# EAGLE library part 1X9_LONG (library pins_1.27mm_pitch)
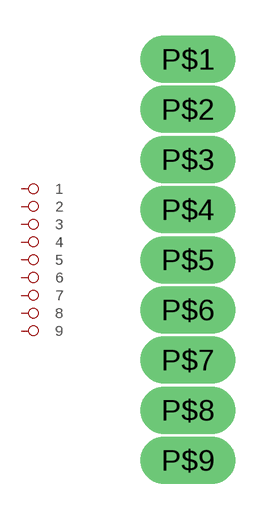
[diagram p6: symbol with the pads of 1X9_LONG; footprint 1X9_LONG]

Designator prefix -

## 1X9_LONG  [1X9_LONG]
P$1  1
P$2  2
P$3  3
P$4  4
P$5  5
P$6  6
P$7  7
P$8  8
P$9  9

## Footprint 1X9_LONG (pad centres in mm)
drill 0.7 pad 1 long: P$1 0,0; P$2 0,-1.27; P$3 0,-2.54; P$4 0,-3.81; P$5 0,-5.08; P$6 0,-6.35; P$7 0,-7.62; P$8 0,-8.89; P$9 0,-10.16